# EAGLE library part TB6612FNG_BREAKOUT (library breakout-modules)
Sparkfun Tb6612fng breakout board Schematics <http://www.sparkfun.com/datasheets/Robotics/TB6612FNG%20Breakout%20v11.zip>
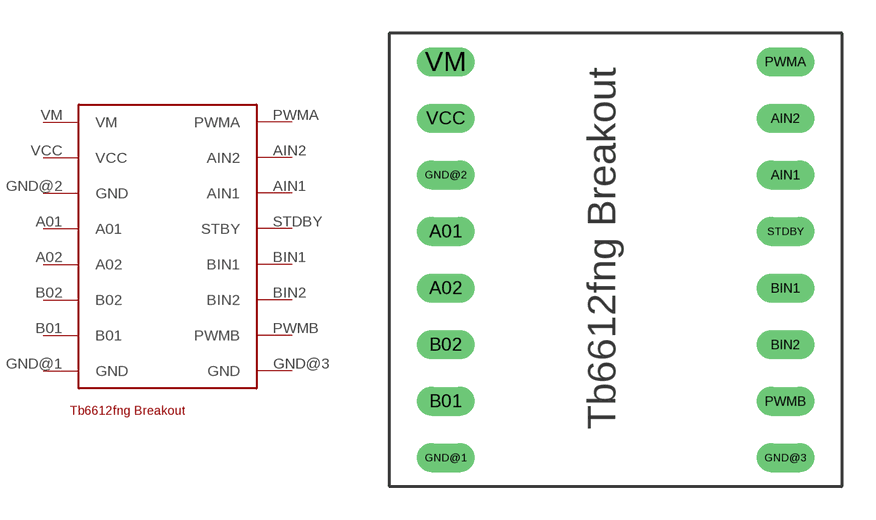
[diagram p2: symbol with the pads of TB6612FNG_BREAKOUT; footprint TB6612FNG_BREAKOUT]

Designator prefix -

## TB6612FNG_BREAKOUT  [TB6612FNG_BREAKOUT]
A01  A01  out
A02  A02  out
AIN1  AIN1  in
AIN2  AIN2  in
B01  B01  out
B02  B02  out
BIN1  BIN1  in
BIN2  BIN2  in
GND@1  GND  pwr
GND@2  GND  pwr
GND@3  GND  pwr
PWMA  PWMA  in
PWMB  PWMB  in
STDBY  STBY  in
VCC  VCC  pwr
VM  VM  pwr

## Footprint TB6612FNG_BREAKOUT (pad centres in mm)
drill 0.8 long: A01 2.54,11.43; A02 2.54,8.89; AIN1 17.78,13.97; AIN2 17.78,16.51; B01 2.54,3.81; B02 2.54,6.35; BIN1 17.78,8.89; BIN2 17.78,6.35; GND@1 2.54,1.27; GND@2 2.54,13.97; GND@3 17.78,1.27; PWMA 17.78,19.05; PWMB 17.78,3.81; STDBY 17.78,11.43; VCC 2.54,16.51; VM 2.54,19.05